# EAGLE library part 40XX_HC4052M (library sensortag_motherboard_v004)
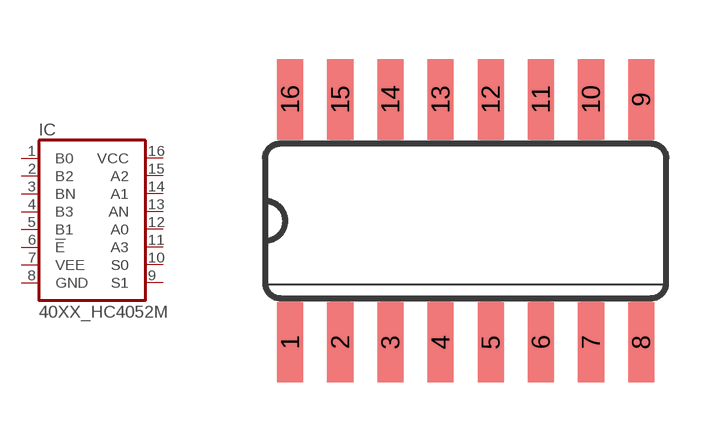
[diagram p1: symbol with the pads of 40XX_SO16; footprint 40XX_SO16]

Designator prefix IC

## 40XX_HC4052M  [40XX_SO16]
1  B0
2  B2
3  BN
4  B3
5  B1
6  !E
7  VEE
8  GND
9  S1
10  S0
11  A3
12  A0
13  AN
14  A1
15  A2
16  VCC

## Footprint 40XX_SO16 (pad centres in mm)
Small Outline package 150 mil
smd 0.66 x 2.032: 1 -4.445,-3.073; 2 -3.175,-3.073; 3 -1.905,-3.073; 4 -0.635,-3.073; 5 0.635,-3.073; 6 1.905,-3.073; 7 3.175,-3.073; 8 4.445,-3.073; 9 4.445,3.073; 10 3.175,3.073; 11 1.905,3.073; 12 0.635,3.073; 13 -0.635,3.073; 14 -1.905,3.073; 15 -3.175,3.073; 16 -4.445,3.073